# Altium schematic symbol library SSM3K361R.Schlib: 1 symbol
Pins are listed as number, name and electrical type; pins without a type are passive.

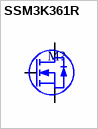
[diagram p0: symbol SSM3K361R]

## SSM3K361R
designator M?
100V 3.5A N-Channel
pins: 1 G, 2 S, 3 D